# Altium footprint library X3399.PcbLib: 1 footprints
Each footprint in its own frame and in the unit in brackets; x right, y up, seen from the top. Pads: shape width x height; smd on the part's side, far side on the other; paste and mask are expansions set on the pad; w line width, h text height; cw(c..) or ccw(c..) is an arc to the next point about the centre after c.
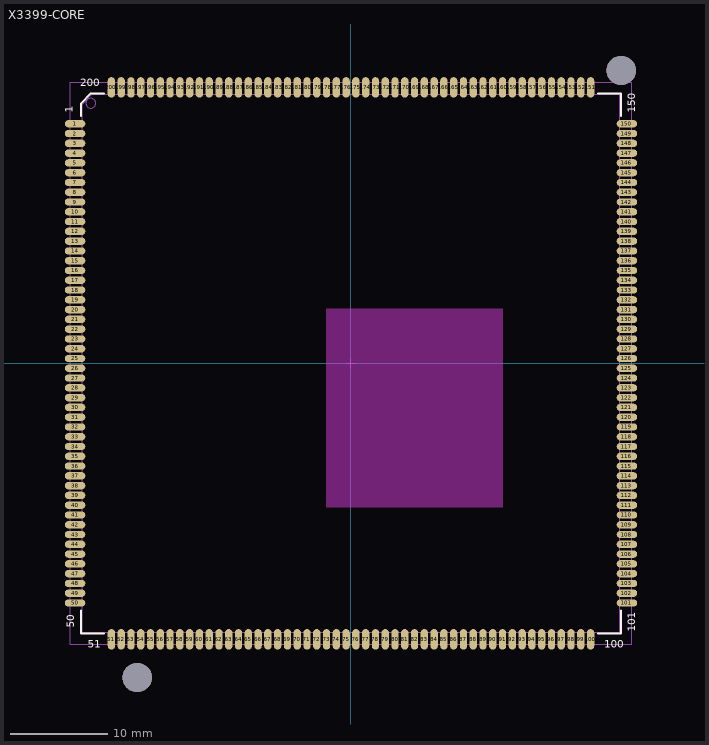
[diagram p0: the footprint, top view; thin cyan lines are the x and y axes]

## X3399-CORE [mm] "200-Pins, Body 55,00x55,00mmx3,00mm, Pitch 1,00mm"
height 3
pads (202):
  oval 2.1x0.75 smd: 1(-28.218,24.5) 2(-28.218,23.5) 3(-28.218,22.5) 4(-28.218,21.5) 5(-28.218,20.5) 6(-28.218,19.5) 7(-28.218,18.5) 8(-28.218,17.5) 9(-28.218,16.5) 10(-28.218,15.5) 11(-28.218,14.5) 12(-28.218,13.5) 13(-28.218,12.5) 14(-28.218,11.5) 15(-28.218,10.5) 16(-28.218,9.5) 17(-28.218,8.5) 18(-28.218,7.5) 19(-28.218,6.5) 20(-28.218,5.5) 21(-28.218,4.5) 22(-28.218,3.5) 23(-28.218,2.5) 24(-28.218,1.5) 25(-28.218,0.5) 26(-28.218,-0.5) 27(-28.218,-1.5) 28(-28.218,-2.5) 29(-28.218,-3.5) 30(-28.218,-4.5) 31(-28.218,-5.5) 32(-28.218,-6.5) 33(-28.218,-7.5) 34(-28.218,-8.5) 35(-28.218,-9.5) 36(-28.218,-10.5) 37(-28.218,-11.5) 38(-28.218,-12.5) 39(-28.218,-13.5) 40(-28.218,-14.5) 41(-28.218,-15.5) 42(-28.218,-16.5) 43(-28.218,-17.5) 44(-28.218,-18.5) 45(-28.218,-19.5) 46(-28.218,-20.5) 47(-28.218,-21.5) 48(-28.218,-22.5) 49(-28.218,-23.5) 50(-28.218,-24.5) 101(28.218,-24.5) 102(28.218,-23.5) 103(28.218,-22.5) 104(28.218,-21.5) 105(28.218,-20.5) 106(28.218,-19.5) 107(28.218,-18.5) 108(28.218,-17.5) 109(28.218,-16.5) 110(28.218,-15.5) 111(28.218,-14.5) 112(28.218,-13.5) 113(28.218,-12.5) 114(28.218,-11.5) 115(28.218,-10.5) 116(28.218,-9.5) 117(28.218,-8.5) 118(28.218,-7.5) 119(28.218,-6.5) 120(28.218,-5.5) 121(28.218,-4.5) 122(28.218,-3.5) 123(28.218,-2.5) 124(28.218,-1.5) 125(28.218,-0.5) 126(28.218,0.5) 127(28.218,1.5) 128(28.218,2.5) 129(28.218,3.5) 130(28.218,4.5) 131(28.218,5.5) 132(28.218,6.5) 133(28.218,7.5) 134(28.218,8.5) 135(28.218,9.5) 136(28.218,10.5) 137(28.218,11.5) 138(28.218,12.5) 139(28.218,13.5) 140(28.218,14.5) 141(28.218,15.5) 142(28.218,16.5) 143(28.218,17.5) 144(28.218,18.5) 145(28.218,19.5) 146(28.218,20.5) 147(28.218,21.5) 148(28.218,22.5) 149(28.218,23.5) 150(28.218,24.5)
  oval 0.75x2.1 smd: 51(-24.5,-28.218) 52(-23.5,-28.218) 53(-22.5,-28.218) 54(-21.5,-28.218) 55(-20.5,-28.218) 56(-19.5,-28.218) 57(-18.5,-28.218) 58(-17.5,-28.218) 59(-16.5,-28.218) 60(-15.5,-28.218) 61(-14.5,-28.218) 62(-13.5,-28.218) 63(-12.5,-28.218) 64(-11.5,-28.218) 65(-10.5,-28.218) 66(-9.5,-28.218) 67(-8.5,-28.218) 68(-7.5,-28.218) 69(-6.5,-28.218) 70(-5.5,-28.218) 71(-4.5,-28.218) 72(-3.5,-28.218) 73(-2.5,-28.218) 74(-1.5,-28.218) 75(-0.5,-28.218) 76(0.5,-28.218) 77(1.5,-28.218) 78(2.5,-28.218) 79(3.5,-28.218) 80(4.5,-28.218) 81(5.5,-28.218) 82(6.5,-28.218) 83(7.5,-28.218) 84(8.5,-28.218) 85(9.5,-28.218) 86(10.5,-28.218) 87(11.5,-28.218) 88(12.5,-28.218) 89(13.5,-28.218) 90(14.5,-28.218) 91(15.5,-28.218) 92(16.5,-28.218) 93(17.5,-28.218) 94(18.5,-28.218) 95(19.5,-28.218) 96(20.5,-28.218) 97(21.5,-28.218) 98(22.5,-28.218) 99(23.5,-28.218) 100(24.5,-28.218) 151(24.5,28.218) 152(23.5,28.218) 153(22.5,28.218) 154(21.5,28.218) 155(20.5,28.218) 156(19.5,28.218) 157(18.5,28.218) 158(17.5,28.218) 159(16.5,28.218) 160(15.5,28.218) 161(14.5,28.218) 162(13.5,28.218) 163(12.5,28.218) 164(11.5,28.218) 165(10.5,28.218) 166(9.5,28.218) 167(8.5,28.218) 168(7.5,28.218) 169(6.5,28.218) 170(5.5,28.218) 171(4.5,28.218) 172(3.5,28.218) 173(2.5,28.218) 174(1.5,28.218) 175(0.5,28.218) 176(-0.5,28.218) 177(-1.5,28.218) 178(-2.5,28.218) 179(-3.5,28.218) 180(-4.5,28.218) 181(-5.5,28.218) 182(-6.5,28.218) 183(-7.5,28.218) 184(-8.5,28.218) 185(-9.5,28.218) 186(-10.5,28.218) 187(-11.5,28.218) 188(-12.5,28.218) 189(-13.5,28.218) 190(-14.5,28.218) 191(-15.5,28.218) 192(-16.5,28.218) 193(-17.5,28.218) 194(-18.5,28.218) 195(-19.5,28.218) 196(-20.5,28.218) 197(-21.5,28.218) 198(-22.5,28.218) 199(-23.5,28.218) 200(-24.5,28.218)
  round 3 hole 3: ""(-21.863,-32.121) ""(27.63,29.95)
Top Overlay:
  lines w0.2: -27.6,-25.275 -27.6,-27.6 -25.275,-27.6 ; -27.6,25.275 -27.6,26.6 -26.6,27.6 -25.275,27.6 ; 25.275,-27.6 27.6,-27.6 27.6,-25.275 ; 25.275,27.6 27.6,27.6 27.6,25.275
  text "150" at 29.083,25.654 h0.8
  text "200" at -27.686,28.321 h0.8
  text "1" at -28.448,25.654 h0.8
  text "50" at -28.321,-27.051 h0.8
  text "51" at -26.924,-29.083 h0.8
  text "100" at 25.908,-29.083 h0.8
  text "101" at 29.083,-27.432 h0.8
Keep-Out Layer:
  board cut-out: -2.54,5.588 15.494,5.588 15.494,-14.478 15.494,-14.605 15.494,-14.732 -2.54,-14.732
Mechanical 13:
  circle w0.1: c-26.6,26.6 r0.5
  lines w0.1: -27.5,-27.5 -27.5,26.5 -26.5,27.5 27.5,27.5 27.5,-27.5 -27.5,-27.5
Mechanical 15:
  lines w0.05: -28.725,-28.725 -28.725,28.725 28.725,28.725 28.725,-28.725 -28.725,-28.725
  lines w0.1: -0.5,0 0.5,0 ; 0,-0.5 0,0.5
3D body: height 0.2, standoff 0.01, extent -27.368,-27.749 27.623,27.496